# Altium integrated library UFL Antenna.IntLib: 1 symbol
Pins are listed as number, name and electrical type; pins without a type are passive.

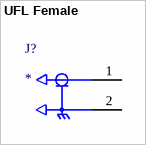
[diagram p0: symbol UFL Female]

## UFL Female
designator J?
footprint HRS_U.FL-R-SMT(01)
pins: 1 SIG, 2 GND